# Altium footprint library 691364300003.PcbLib: 1 footprints
Each footprint in its own frame and in the unit in brackets; x right, y up, seen from the top. Pads: shape width x height; smd on the part's side, far side on the other; paste and mask are expansions set on the pad; w line width, h text height; cw(c..) or ccw(c..) is an arc to the next point about the centre after c.
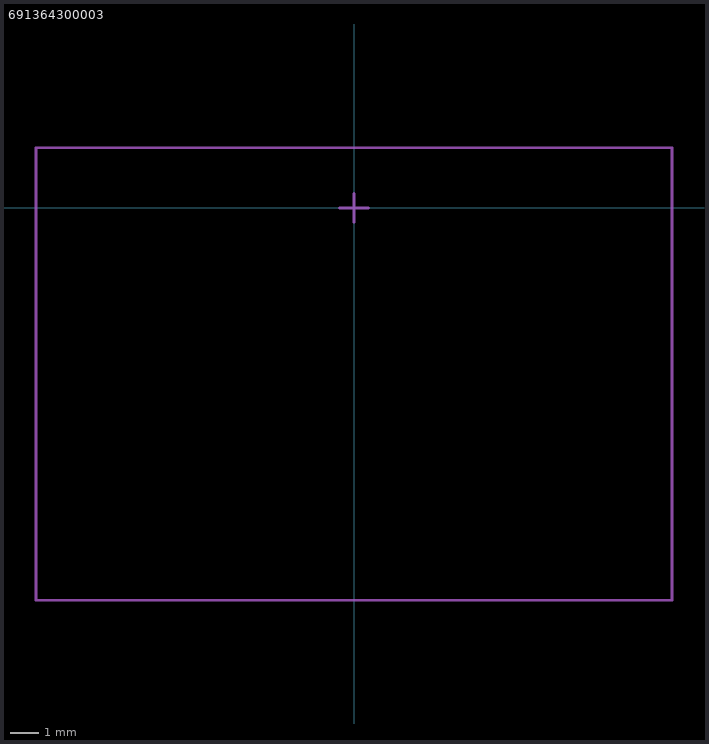
[diagram p0: the footprint, top view; thin cyan lines are the x and y axes]

## 691364300003 [mm]
Top Assembly:
  lines w0.1: -0.5,0 0.5,0 ; 0,-0.5 0,0.5 ; -11.11,-13.7 -11.11,2.1 11.11,2.1 11.11,-13.7 -11.11,-13.7
3D body "691364300003 (rev1).stp": height 7.85, standoff -3.25, extent -10.915,-13.7 10.915,2.1